# Altium footprint library BJT.PcbLib: 3 footprints
Each footprint in its own frame and in the unit in brackets; x right, y up, seen from the top. Pads: shape width x height; smd on the part's side, far side on the other; paste and mask are expansions set on the pad; w line width, h text height; cw(c..) or ccw(c..) is an arc to the next point about the centre after c.
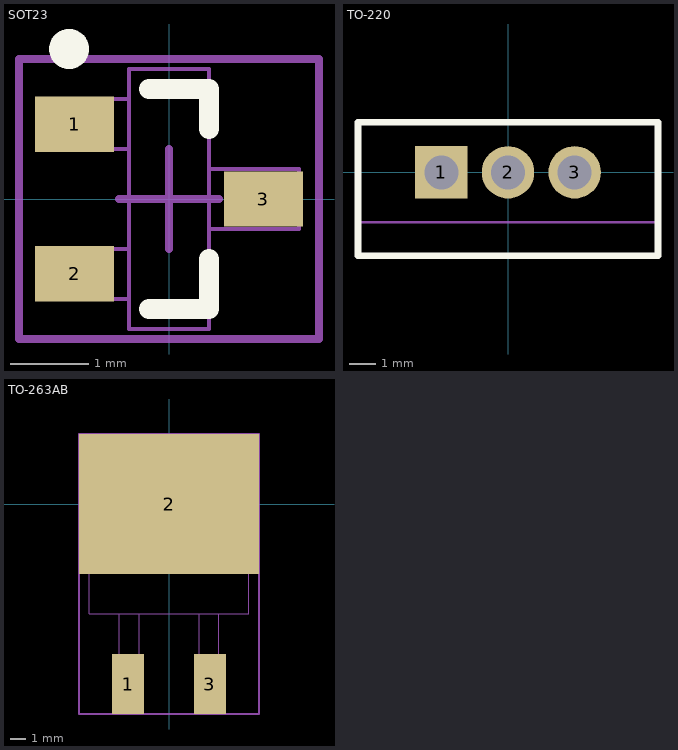
[diagram p0: the footprints below, top view; thin cyan lines are the x and y axes]

## SOT23 [mm]
pads (3):
  rect 1x0.7 smd: 1(-1.2,0.95) 2(-1.2,-0.95) 3(1.2,0)
Top Overlay:
  circle w0.254: c-1.27,1.905 r0.127
  lines w0.254: -0.254,-1.397 0.508,-1.397 0.508,-0.762 ; -0.254,1.397 0.508,1.397 0.508,0.889
Mechanical 13:
  lines w0.05: -0.508,-1.27 -1.651,-1.27 -1.651,-0.635 -0.508,-0.635 ; -0.508,0.635 -1.651,0.635 -1.651,1.27 -0.508,1.27 ; 0.508,-0.381 1.651,-0.381 1.651,0.381 0.508,0.381 ; -0.508,-1.651 -0.508,1.651 0.508,1.651 0.508,-1.651 -0.508,-1.651
  text ".Designator" at -0.381,1.016 h0.7
Mechanical 15:
  lines w0.1: -0.635,0 0.635,0 ; 0,-0.635 0,0.635 ; -1.905,-1.778 1.905,-1.778 1.905,1.778 -1.905,1.778 -1.905,-1.778
3D body "User Library-SOT95P240X110-3M[SOT23-3_TO-236AB].STEP": height 1.09, standoff 0, extent -1.25,-1.5 1.25,1.5

## TO-220 [mm] "TO-220 Vertical Mount"
pads (3):
  rect 2x2 hole 1.3: 1(-2.54,0)
  round 2 hole 1.3: 2(0,0) 3(2.54,0)
Top Overlay:
  lines w0.254: -5.715,-3.175 -5.715,1.905 5.715,1.905 5.715,-3.175 -5.715,-3.175
Mechanical 13:
  lines w0.1: -5.715,-1.905 5.715,-1.905 ; -5.715,-3.175 5.715,-3.175 5.715,1.905 -5.715,1.905 -5.715,-3.175
  text ".Designator" at -3.175,-1.27 h1.52
Mechanical 15:
  lines w0.05: -5.715,-3.175 5.715,-3.175 5.715,1.905 -5.715,1.905 -5.715,-3.175
  text "1" at -4.318,-0.254 h0.5
3D body "TO-220.stp": height 22.62, standoff -8.37, extent -5.335,-3.179 5.335,1.651

## TO-263AB [mm]
pads (3):
  rect 2.03x3.81 smd: 1(-2.595,-11.43) 3(2.595,-11.43)
  rect 11.43x8.89 smd: 2(0,0)
Mechanical 13:
  lines w0.05: -5.08,0.635 5.08,0.635 ; -3.175,-6.985 -3.175,-12.065 -1.905,-12.065 -1.905,-6.985 ; 1.905,-6.985 1.905,-12.065 3.175,-12.065 3.175,-6.985 ; -5.08,-6.985 -5.08,2.54 5.08,2.54 5.08,-6.985 -5.08,-6.985
  text ".Designator" at -2.54,-4.445 h1.52
Mechanical 15:
  lines w0.1: -1.27,0 1.27,0 ; 0,-1.27 0,1.27 ; -5.715,-13.335 5.715,-13.335 5.715,4.445 -5.715,4.445 -5.715,-13.335
3D body "TO263-3S.STEP": height 4.81, standoff 0.01, extent -5,-12.61 5,3.06